# Altium schematic symbol library LM393DR.Schlib: 1 symbol
Pins are listed as number, name and electrical type; pins without a type are passive.

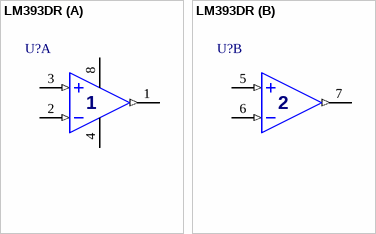
[diagram p0: symbol LM393DR]

## LM393DR
designator U?
Dual Comparators
part A pins: 1 OUT1 (out), 2 IN1- (in), 3 IN1+ (in), 4 GND (power), 8 VCC (power)
part B pins: 5 IN2+ (in), 6 IN2- (in), 7 OUT2 (out)